# EAGLE library part 6X1PIN-2.54MM-F-HEADER (library Itead-misc)
CON016
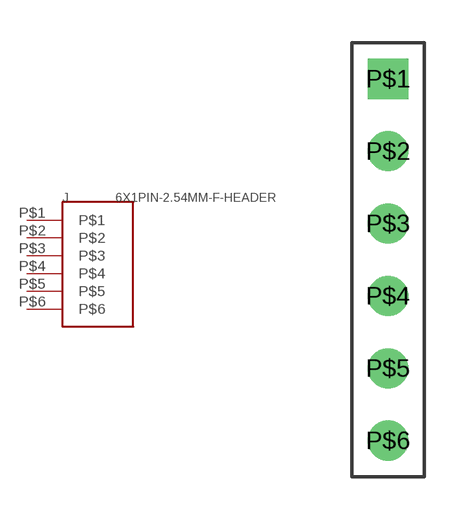
[diagram p16: symbol with the pads of 6X1-2.54MM; footprint 6X1-2.54MM]

Designator prefix J

## 6X1PIN-2.54MM-F-HEADER  [6X1-2.54MM]
P$1  P$1
P$2  P$2
P$3  P$3
P$4  P$4
P$5  P$5
P$6  P$6

## Footprint 6X1-2.54MM (pad centres in mm)
drill 0.9 square: P$1 0,0
drill 0.9 round: P$2 0,-2.54; P$3 0,-5.08; P$4 0,-7.62; P$5 0,-10.16; P$6 0,-12.7